# EAGLE library part STM32F378RCY (library STM32F3xx)
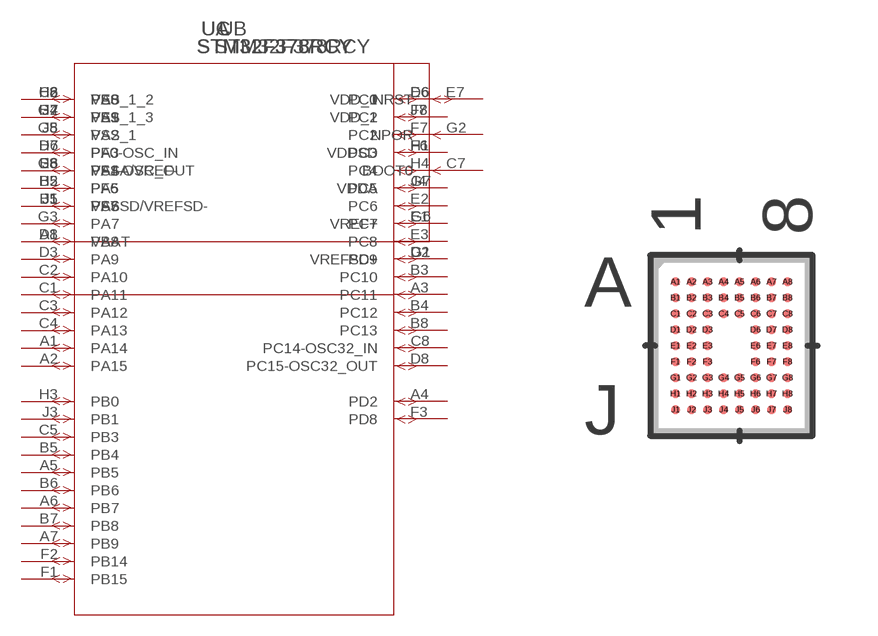
[diagram p29: symbol with the pads of WLCSP66; footprint WLCSP66]

Designator prefix U; gates A=STM32F378RCY B=STM32F378RCY_01 C=STM32F378RCY_00

## STM32F378RCY (COPYRIGHT: Copyright C 2016 Accelerated Designs. All rights reserved; MANUFACTURER_PART_NUMBER: stm32f378rcy; VENDOR: STMicroelectronics)  [WLCSP66]
A1  A:PA14
A2  A:PA15
A3  A:PC11
A4  A:PD2
A5  A:PB5
A6  A:PB7
A7  A:PB9
A8  C:VBAT  pwr
B1  B:PF7
B2  B:PF6
B3  A:PC10
B4  A:PC12
B5  A:PB4
B6  A:PB6
B7  A:PB8
B8  A:PC13
C1  A:PA11
C2  A:PA10
C3  A:PA12
C4  A:PA13
C5  A:PB3
C6  C:VSS_1_2  pwr
C7  B:BOOT0  in
C8  A:PC14-OSC32_IN
D1  A:PA8
D2  A:PC9
D3  A:PA9
D6  C:VDD_1  pwr
D7  B:PF0-OSC_IN
D8  A:PC15-OSC32_OUT
E1  A:PC7
E2  A:PC6
E3  A:PC8
E6  A:PC0
E7  B:NRST
E8  B:PF1-OSC_OUT
F1  A:PB15
F2  A:PB14
F3  A:PD8
F6  A:PC3
F7  A:PC2
F8  A:PC1
G1  C:VREFSD+  pwr
G2  B:NPOR  in
G3  A:PA7
G4  C:VSS_1_3  pwr
G5  C:VSS_1  pwr
G6  C:VREF+  pwr
G7  C:VDDA  pwr
G8  C:VSSA/VREF-  pwr
H1  C:VDDSD  pwr
H2  B:PE8
H3  A:PB0
H4  A:PC4
H5  A:PA5
H6  A:PA3
H7  A:PA1
H8  A:PA0
J1  C:VSSSD/VREFSD-  pwr
J2  B:PE9
J3  A:PB1
J4  A:PC5
J5  A:PA6
J6  A:PA4
J7  C:VDD_2  pwr
J8  A:PA2

## Footprint WLCSP66 (pad centres in mm)
smd 0.229 x 0.229: A1 -1.4,1.6; A2 -1,1.6; A3 -0.6,1.6; A4 -0.2,1.6; A5 0.2,1.6; A6 0.6,1.6; A7 1,1.6; A8 1.4,1.6; B1 -1.4,1.2; B2 -1,1.2; B3 -0.6,1.2; B4 -0.2,1.2; B5 0.2,1.2; B6 0.6,1.2; B7 1,1.2; B8 1.4,1.2; C1 -1.4,0.8; C2 -1,0.8; C3 -0.6,0.8; C4 -0.2,0.8; C5 0.2,0.8; C6 0.6,0.8; C7 1,0.8; C8 1.4,0.8; D1 -1.4,0.4; D2 -1,0.4; D3 -0.6,0.4; D6 0.6,0.4; D7 1,0.4; D8 1.4,0.4; E1 -1.4,0; E2 -1,0; E3 -0.6,0; E6 0.6,0; E7 1,0; E8 1.4,0; F1 -1.4,-0.4; F2 -1,-0.4; F3 -0.6,-0.4; F6 0.6,-0.4; F7 1,-0.4; F8 1.4,-0.4; G1 -1.4,-0.8; G2 -1,-0.8; G3 -0.6,-0.8; G4 -0.2,-0.8; G5 0.2,-0.8; G6 0.6,-0.8; G7 1,-0.8; G8 1.4,-0.8; H1 -1.4,-1.2; H2 -1,-1.2; H3 -0.6,-1.2; H4 -0.2,-1.2; H5 0.2,-1.2; H6 0.6,-1.2; H7 1,-1.2; H8 1.4,-1.2; J1 -1.4,-1.6; J2 -1,-1.6; J3 -0.6,-1.6; J4 -0.2,-1.6; J5 0.2,-1.6; J6 0.6,-1.6; J7 1,-1.6; J8 1.4,-1.6